# Altium footprint library 694106301002.PcbLib: 1 footprints
Each footprint in its own frame and in the unit in brackets; x right, y up, seen from the top. Pads: shape width x height; smd on the part's side, far side on the other; paste and mask are expansions set on the pad; w line width, h text height; cw(c..) or ccw(c..) is an arc to the next point about the centre after c.
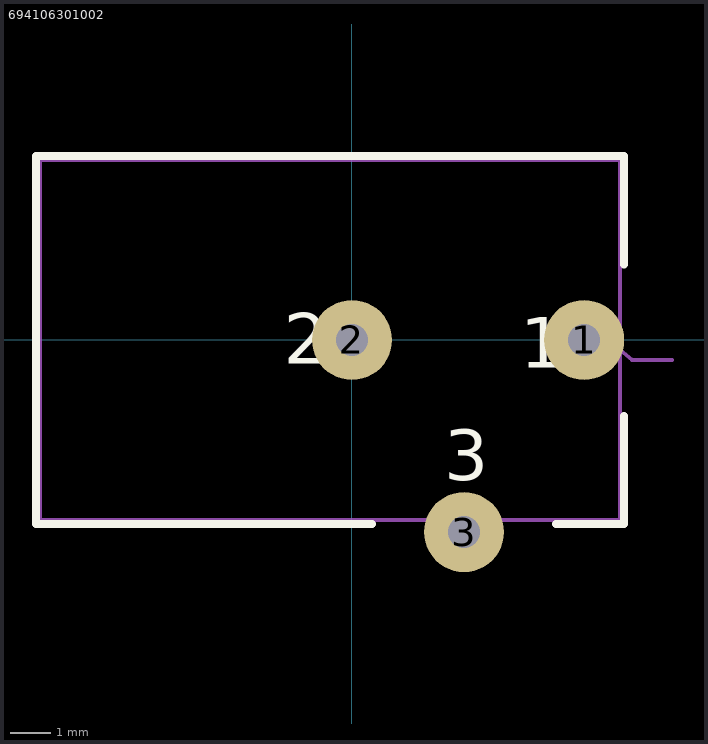
[diagram p0: the footprint, top view; thin cyan lines are the x and y axes]

## 694106301002 [mm]
pads (3):
  round 2 hole 0.8 square: 1(5.8,0) 2(0,0) 3(2.8,-4.8)
Top Overlay:
  lines w0.2: 0.5,-4.6 -7.9,-4.6 -7.9,4.6 6.8,4.6 6.8,1.89 ; 5.1,-4.6 6.8,-4.6 6.8,-1.9
  text "2" at -1.7,-0.6 h1.27
  text "1" at 4.2,-0.7 h1.27
  text "3" at 2.3,-3.5 h1.27
Mechanical 1:
  text "PCB Cutout Area" at 2.9,-5 h0.25
  text "PCB Cutout Area" at 0.1,0 h0.25
  text "PCB Cutout Area" at 5.9,0 h0.25
Mechanical 13:
  lines w0.1: 6.4,-0.2 6.4,0 ; 6.6,0 6.4,0 ; 8,-0.5 7,-0.5 6.4,0 ; -7.8,-4.5 -7.8,4.5 6.7,4.5 6.7,-4.5 -7.8,-4.5
3D body "step_temp.STEP": height 11, standoff -3.5, extent -4.5,-5.35 5,9.141